# Altium integrated library LTC2325_2311_COMS.IntLib: 34 symbols
Pins are listed as number, name and electrical type; pins without a type are passive.

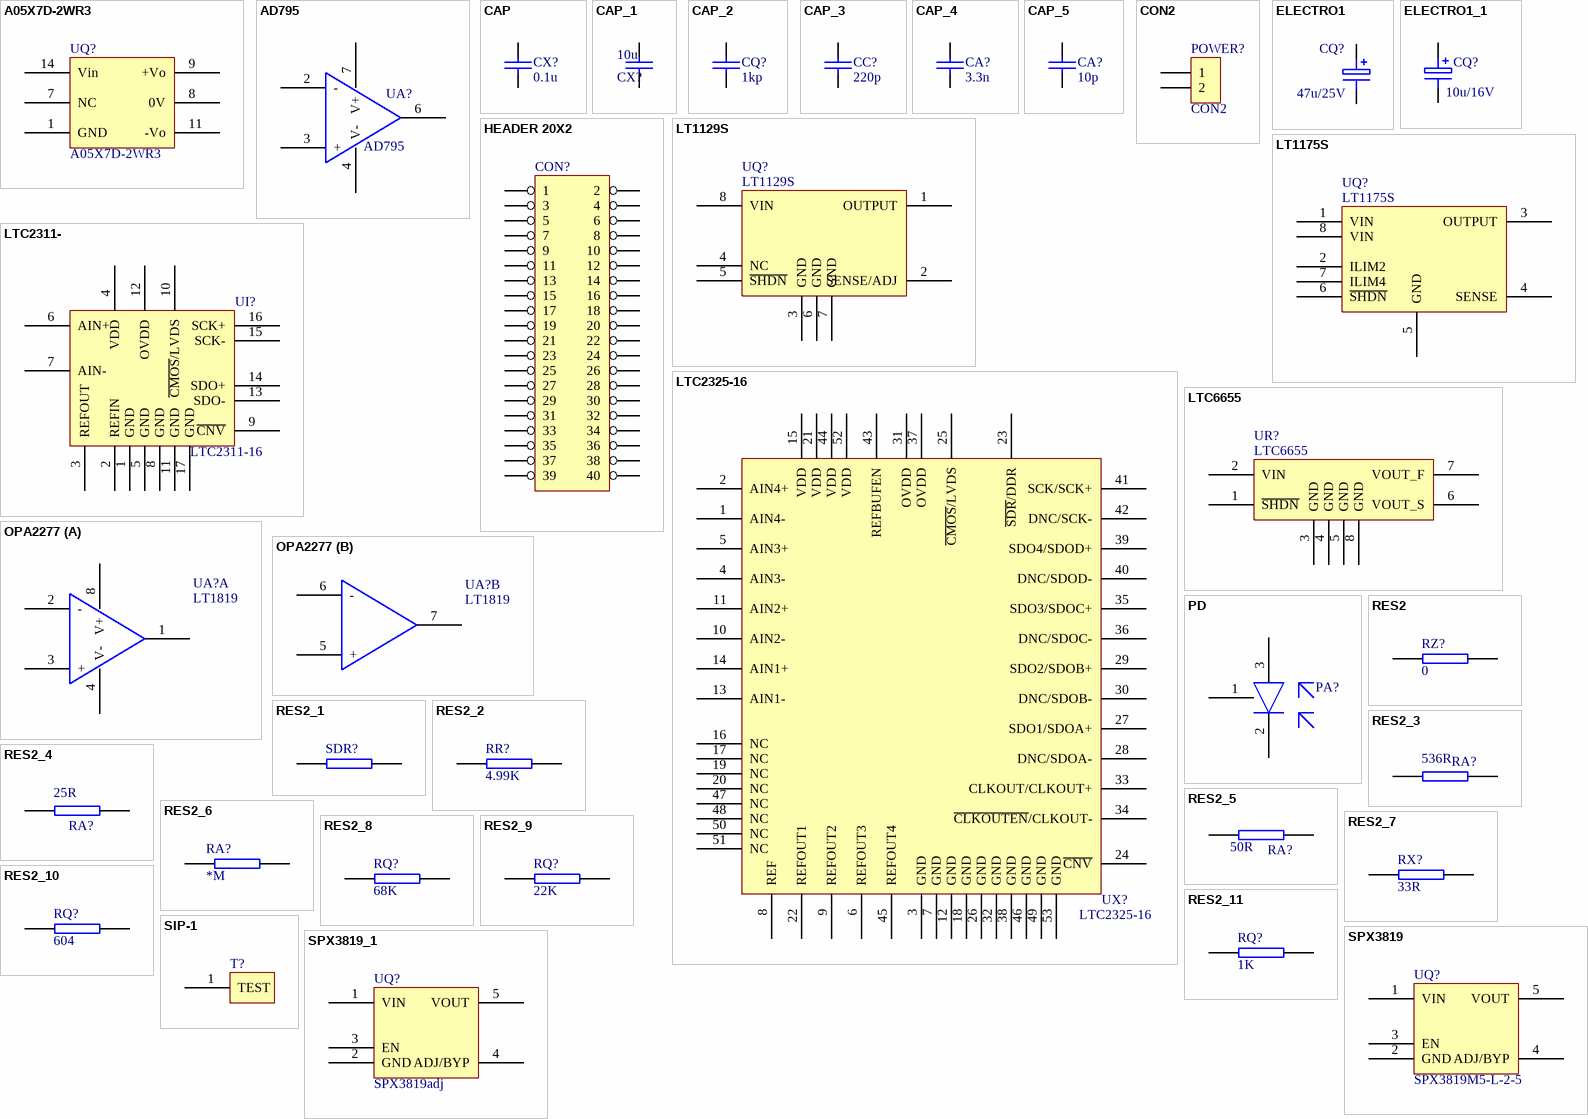
[diagram p0: symbols A05X7D-2WR3 to SPX3819_1]

## A05X7D-2WR3
designator UQ?
footprint A05_D-2WR3
pins: 1 GND, 7 NC, 8 0V, 9 +Vo, 11 -Vo, 14 Vin

## AD795
designator UA?
footprint SO-8
pins: 2 -, 3 +, 4 V-, 6, 7 V+

## CAP
designator CX?, comment 0.1u
Capacitor
footprint 0805
pins: 1, 2

## CAP_1
designator CX?, comment 10u
Capacitor
footprint 0805
pins: 1, 2

## CAP_2
designator CQ?, comment 1kp
Capacitor
footprint 0805
pins: 1, 2

## CAP_3
designator CC?, comment 220p
Capacitor
footprint 0805
pins: 1, 2

## CAP_4
designator CA?, comment 3.3n
Capacitor
footprint 0805
pins: 1, 2

## CAP_5
designator CA?, comment 10p
Capacitor
footprint 0805
pins: 1, 2

## CON2
designator POWER?
Connector
footprint sip-2
pins: 1, 2

## ELECTRO1
designator CQ?, comment 47u/25V
footprint A3216
pins: 1, 2

## ELECTRO1_1
designator CQ?, comment 10u/16V
footprint A3216
pins: 1, 2

## HEADER 20X2
designator CON?
footprint IDC40
pins: 1, 2, 3, 4, 5, 6, 7, 8, 9, 10, 11, 12, 13, 14, 15, 16, 17, 18, 19, 20, 21, 22, 23, 24, 25, 26, 27, 28, 29, 30, 31, 32, 33, 34, 35, 36, 37, 38, 39, 40

## LT1129S
designator UQ?
footprint S8
pins: 1 OUTPUT, 2 SENSE/ADJ, 3 GND, 4 NC, 5 ~{SHDN}, 6 GND, 7 GND, 8 VIN

## LT1175S
designator UQ?
footprint S8
pins: 1 VIN, 2 ILIM2, 3 OUTPUT, 4 SENSE, 5 GND, 6 ~{SHDN}, 7 ILIM4, 8 VIN

## LTC2311-
designator UI?, comment LTC2311-16
footprint MSOP-16
pins: 1 GND, 2 REFIN, 3 REFOUT, 4 VDD, 5 GND, 6 AIN+, 7 AIN-, 8 GND, 9 ~{CNV}, 10 ~{CMOS}/LVDS, 11 GND, 12 OVDD, 13 SDO-, 14 SDO+, 15 SCK-, 16 SCK+, 17 GND

## LTC2325-16
designator UX?
footprint LTC2325-16
pins: 1 AIN4-, 2 AIN4+, 3 GND, 4 AIN3-, 5 AIN3+, 6 REFOUT3, 7 GND, 8 REF, 9 REFOUT2, 10 AIN2-, 11 AIN2+, 12 GND, 13 AIN1-, 14 AIN1+, 15 VDD, 16 NC, 17 NC, 18 GND, 19 NC, 20 NC, 21 VDD, 22 REFOUT1, 23 ~{SDR}/DDR, 24 ~{CNV}, 25 ~{CMOS}/LVDS, 26 GND, 27 SDO1/SDOA+, 28 DNC/SDOA-, 29 SDO2/SDOB+, 30 DNC/SDOB-, 31 OVDD, 32 GND, 33 CLKOUT/CLKOUT+, 34 ~{CLKOUTEN}/CLKOUT-, 35 SDO3/SDOC+, 36 DNC/SDOC-, 37 OVDD, 38 GND, 39 SDO4/SDOD+, 40 DNC/SDOD-, 41 SCK/SCK+, 42 DNC/SCK-, 43 REFBUFEN, 44 VDD, 45 REFOUT4, 46 GND, 47 NC, 48 NC, 49 GND, 50 NC, 51 NC, 52 VDD, 53 GND

## LTC6655
designator UR?
footprint MS8
pins: 1 ~{SHDN}, 2 VIN, 3 GND, 4 GND, 5 GND, 6 VOUT_S, 7 VOUT_F, 8 GND

## OPA2277
designator UA?, comment LT1819
footprint SO-8
part A pins: 1, 2 -, 3 +, 4 V-, 8 V+
part B pins: 5 +, 6 -, 7

## PD
designator PA?
footprint PD
pins: 1, 2, 3

## RES2
designator RZ?, comment 0
footprint 0805
pins: 1, 2

## RES2_1
designator SDR?
footprint 0805
pins: 1, 2

## RES2_2
designator RR?, comment 4.99K
footprint 0805
pins: 1, 2

## RES2_3
designator RA?, comment 536R
footprint 0805
pins: 1, 2

## RES2_4
designator RA?, comment 25R
footprint 0805
pins: 1, 2

## RES2_5
designator RA?, comment 50R
footprint 0805
pins: 1, 2

## RES2_6
designator RA?, comment *M
footprint 0805
pins: 1, 2

## RES2_7
designator RX?, comment 33R
footprint 0805
pins: 1, 2

## RES2_8
designator RQ?, comment 68K
footprint 0805
pins: 1, 2

## RES2_9
designator RQ?, comment 22K
footprint 0805
pins: 1, 2

## RES2_10
designator RQ?, comment 604
footprint 0805
pins: 1, 2

## RES2_11
designator RQ?, comment 1K
footprint 0805
pins: 1, 2

## SIP-1
designator T?
footprint SIP-1
pins: 1 TEST

## SPX3819
designator UQ?, comment SPX3819M5-L-2-5
footprint SOT-23
pins: 1 VIN, 2 GND, 3 EN, 4 ADJ/BYP, 5 VOUT

## SPX3819_1
designator UQ?, comment SPX3819adj
footprint SOT-23
pins: 1 VIN, 2 GND, 3 EN, 4 ADJ/BYP, 5 VOUT